# EAGLE library part AT30TS75 (library Kas-Sensors)
AT30TS75 Temperature sensor 9- to 12-bit Selectable, ±0.5°C Accurate Digital Temperature Sensor
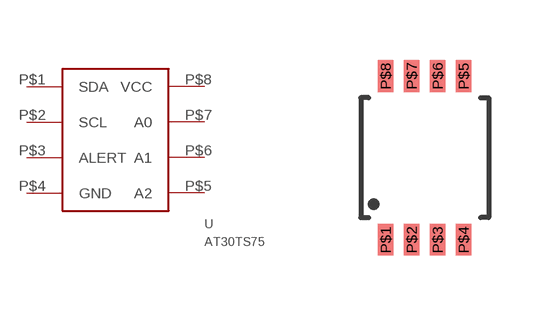
[diagram p15: symbol with the pads of MSOP-8; footprint MSOP-8]

Designator prefix U

## AT30TS75  [MSOP-8]
P$1  SDA
P$2  SCL
P$3  ALERT
P$4  GND
P$5  A2
P$6  A1
P$7  A0
P$8  VCC

## Footprint MSOP-8 (pad centres in mm)
smd 0.38 x 0.8: P$1 -0.975,-2.05; P$2 -0.325,-2.05; P$3 0.325,-2.05; P$4 0.975,-2.05; P$5 0.975,2.05; P$6 0.325,2.05; P$7 -0.325,2.05; P$8 -0.975,2.05